# Altium footprint library con-vg.PCBLIB: 112 footprints (part 2 of 7)
Each footprint in its own frame and in the unit in brackets; x right, y up, seen from the top. Pads: shape width x height; smd on the part's side, far side on the other; paste and mask are expansions set on the pad; w line width, h text height; cw(c..) or ccw(c..) is an arc to the next point about the centre after c.
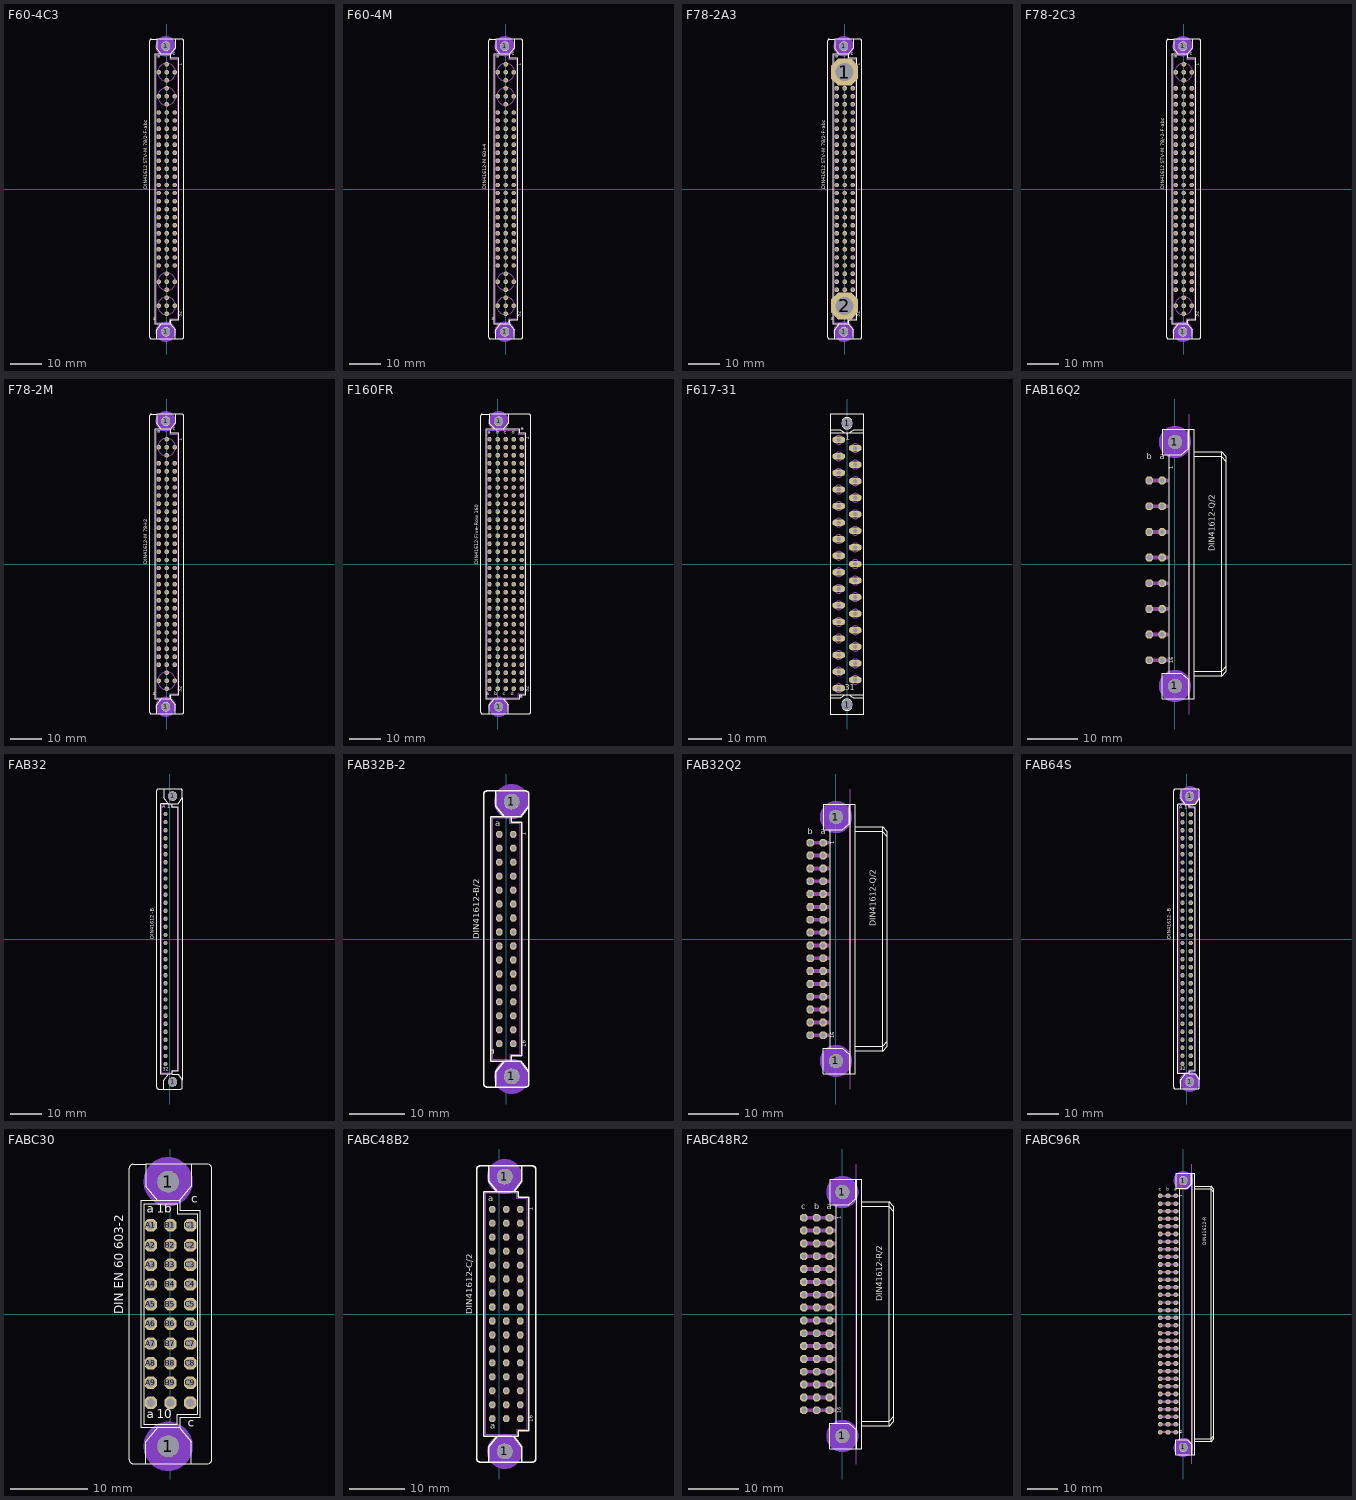
[diagram p1: the footprints below, top view; thin cyan lines are the x and y axes]

## F60-4C3 [mil]
pads (82):
  round 110 hole 110: 1(-12,-1772) 1(-12,1772)
  oct 54x54 hole 36: A2(-100,1450) A5(-100,1150) A7(-100,950) A8(-100,850) A9(-100,750) A10(-100,650) A11(-100,550) A12(-100,450) A13(-100,350) A14(-100,250) A15(-100,150) A16(-100,50) A17(-100,-50) A18(-100,-150) A19(-100,-250) A20(-100,-350) A21(-100,-450) A22(-100,-550) A23(-100,-650) A24(-100,-750) A25(-100,-850) A26(-100,-950) A28(-100,-1150) A31(-100,-1450) B1(0,1550) B2(0,1450) B3(0,1350) B4(0,1250) B5(0,1150) B6(0,1050) B7(0,950) B8(0,850) B9(0,750) B10(0,650) B11(0,550) B12(0,450) B13(0,350) B14(0,250) B15(0,150) B16(0,50) B17(0,-50) B18(0,-150) B19(0,-250) B20(0,-350) B21(0,-450) B22(0,-550) B23(0,-650) B24(0,-750) B25(0,-850) B26(0,-950) B27(0,-1050) B28(0,-1150) B29(0,-1250) B30(0,-1350) B31(0,-1450) B32(0,-1550) C2(100,1450) C5(100,1150) C7(100,950) C8(100,850) C9(100,750) C10(100,650) C11(100,550) C12(100,450) C13(100,350) C14(100,250) C15(100,150) C16(100,50) C17(100,-50) C18(100,-150) C19(100,-250) C20(100,-350) C21(100,-450) C22(100,-550) C23(100,-650) C24(100,-750) C25(100,-850) C26(100,-950) C28(100,-1150) C31(100,-1450)
Bottom Layer keep-out:
  circle w70: c-12,1772 r90
  circle w70: c-12,-1772 r90
Top Overlay:
  circle w10: c-12,-1772 r50
  circle w10: c-12,1772 r50
  lines w10: -125,-1860 -125,-1750 -65,-1675 ; -125,-1860 105,-1860 ; -125,-1860 -190,-1860 cw(c-190,-1840) -210,-1840 -210,1840 cw(c-190,1840) -190,1860 -125,1860 ; -125,1860 105,1860 ; -125,1860 -125,1750 -65,1675 ; -65,-1675 -150,-1675 -150,1675 -65,1675 ; -65,-1675 45,-1675 ; -65,1675 45,1675 ; 45,-1675 50,-1675 50,-1625 150,-1625 150,1625 50,1625 50,1675 45,1675 ; 45,-1675 105,-1750 105,-1860 ; 45,1675 105,1750 105,1860 ; 105,-1860 190,-1860 ccw(c190,-1840) 210,-1840 210,1840 ccw(c190,1840) 190,1860 105,1860
  text "32" at 205,-1590 h77.5
  text "a" at -168.31,-1645 h77.5
  text "c" at 34.57,-1685 h77.5
  text "a" at -120,1610 h77.5
  text "c" at 75,1640 h77.5
  text "1" at 200,1530 h62
  text "DIN41612 STV-M 78/2-F-abc" at -225,0 h77.5
Mechanical 16:
  circle w10: c0,1450 r110
  circle w10: c0,-1450 r110
  circle w10: c0,1150 r110
  circle w10: c0,-1150 r110
  rectangle: 85,525 115,575
  rectangle: 85,725 115,775
  rectangle: -115,525 -85,575
  rectangle: -115,725 -85,775
  rectangle: -115,925 -85,975
  rectangle: 85,925 115,975
  rectangle: 85,425 115,475
  rectangle: 85,625 115,675
  rectangle: -115,425 -85,475
  rectangle: -115,625 -85,675
  rectangle: -115,825 -85,875
  rectangle: 85,825 115,875
  rectangle: 85,-675 115,-625
  rectangle: 85,-475 115,-425
  rectangle: -115,-675 -85,-625
  rectangle: -115,-475 -85,-425
  rectangle: -115,-275 -85,-225
  rectangle: -115,-75 -85,-25
  rectangle: -115,125 -85,175
  rectangle: -115,325 -85,375
  rectangle: 85,-275 115,-225
  rectangle: 85,-75 115,-25
  rectangle: 85,125 115,175
  rectangle: 85,325 115,375
  rectangle: 85,-775 115,-725
  rectangle: 85,-575 115,-525
  rectangle: -115,-775 -85,-725
  rectangle: -115,-575 -85,-525
  rectangle: -115,-375 -85,-325
  rectangle: -115,-175 -85,-125
  rectangle: -115,25 -85,75
  rectangle: -115,225 -85,275
  rectangle: 85,-375 115,-325
  rectangle: 85,-175 115,-125
  rectangle: 85,25 115,75
  rectangle: 85,225 115,275
  rectangle: -115,-875 -85,-825
  rectangle: 85,-875 115,-825
  rectangle: -115,-975 -85,-925
  rectangle: 85,-975 115,-925
  rectangle: -15,525 15,575
  rectangle: -15,725 15,775
  rectangle: -15,925 15,975
  rectangle: -15,425 15,475
  rectangle: -15,625 15,675
  rectangle: -15,825 15,875
  rectangle: -15,-675 15,-625
  rectangle: -15,-475 15,-425
  rectangle: -15,-275 15,-225
  rectangle: -15,-75 15,-25
  rectangle: -15,125 15,175
  rectangle: -15,325 15,375
  rectangle: -15,-775 15,-725
  rectangle: -15,-575 15,-525
  rectangle: -15,-375 15,-325
  rectangle: -15,-175 15,-125
  rectangle: -15,25 15,75
  rectangle: -15,225 15,275
  rectangle: -15,-875 15,-825
  rectangle: -15,-975 15,-925
  lines w2: -135,-1660 -135,1660 35,1660 35,1610 135,1610 135,-1610 35,-1610 35,-1660 -135,-1660
Via Holes:
  circle w70: c-12,1772 r90
  circle w70: c-12,-1772 r90

## F60-4M [mil]
pads (82):
  round 110 hole 110: 1(-12,-1772) 1(-12,1772)
  oct 54x54 hole 36: A2(-100,1450) A5(-100,1150) A7(-100,950) A8(-100,850) A9(-100,750) A10(-100,650) A11(-100,550) A12(-100,450) A13(-100,350) A14(-100,250) A15(-100,150) A16(-100,50) A17(-100,-50) A18(-100,-150) A19(-100,-250) A20(-100,-350) A21(-100,-450) A22(-100,-550) A23(-100,-650) A24(-100,-750) A25(-100,-850) A26(-100,-950) A28(-100,-1150) A31(-100,-1450) B1(0,1550) B2(0,1450) B3(0,1350) B4(0,1250) B5(0,1150) B6(0,1050) B7(0,950) B8(0,850) B9(0,750) B10(0,650) B11(0,550) B12(0,450) B13(0,350) B14(0,250) B15(0,150) B16(0,50) B17(0,-50) B18(0,-150) B19(0,-250) B20(0,-350) B21(0,-450) B22(0,-550) B23(0,-650) B24(0,-750) B25(0,-850) B26(0,-950) B27(0,-1050) B28(0,-1150) B29(0,-1250) B30(0,-1350) B31(0,-1450) B32(0,-1550) C2(100,1450) C5(100,1150) C7(100,950) C8(100,850) C9(100,750) C10(100,650) C11(100,550) C12(100,450) C13(100,350) C14(100,250) C15(100,150) C16(100,50) C17(100,-50) C18(100,-150) C19(100,-250) C20(100,-350) C21(100,-450) C22(100,-550) C23(100,-650) C24(100,-750) C25(100,-850) C26(100,-950) C28(100,-1150) C31(100,-1450)
Bottom Layer keep-out:
  circle w70: c-12,1772 r90
  circle w70: c-12,-1772 r90
Top Overlay:
  circle w10: c-12,-1772 r50
  circle w10: c-12,1772 r50
  lines w10: -125,-1860 -125,-1750 -65,-1675 ; -125,-1860 105,-1860 ; -125,-1860 -190,-1860 cw(c-190,-1840) -210,-1840 -210,1840 cw(c-190,1840) -190,1860 -125,1860 ; -125,1860 105,1860 ; -125,1860 -125,1750 -65,1675 ; -65,-1675 -150,-1675 -150,1675 -65,1675 ; -65,-1675 45,-1675 ; -65,1675 45,1675 ; 45,-1675 50,-1675 50,-1625 150,-1625 150,1625 50,1625 50,1675 45,1675 ; 45,-1675 105,-1750 105,-1860 ; 45,1675 105,1750 105,1860 ; 105,-1860 190,-1860 ccw(c190,-1840) 210,-1840 210,1840 ccw(c190,1840) 190,1860 105,1860
  text "32" at 205,-1590 h77.5
  text "a" at -172.24,-1645 h77.5
  text "c" at 30.63,-1685 h77.5
  text "a" at -120,1610 h77.5
  text "c" at 75,1640 h77.5
  text "1" at 200,1530 h62
  text "DIN41612-M 60+4" at -225,0 h77.5
Mechanical 16:
  circle w10: c0,1450 r110
  circle w10: c0,-1450 r110
  circle w10: c0,1150 r110
  circle w10: c0,-1150 r110
  rectangle: 85,525 115,575
  rectangle: 85,725 115,775
  rectangle: -115,525 -85,575
  rectangle: -115,725 -85,775
  rectangle: -115,925 -85,975
  rectangle: 85,925 115,975
  rectangle: 85,425 115,475
  rectangle: 85,625 115,675
  rectangle: -115,425 -85,475
  rectangle: -115,625 -85,675
  rectangle: -115,825 -85,875
  rectangle: 85,825 115,875
  rectangle: 85,-675 115,-625
  rectangle: 85,-475 115,-425
  rectangle: -115,-675 -85,-625
  rectangle: -115,-475 -85,-425
  rectangle: -115,-275 -85,-225
  rectangle: -115,-75 -85,-25
  rectangle: -115,125 -85,175
  rectangle: -115,325 -85,375
  rectangle: 85,-275 115,-225
  rectangle: 85,-75 115,-25
  rectangle: 85,125 115,175
  rectangle: 85,325 115,375
  rectangle: 85,-775 115,-725
  rectangle: 85,-575 115,-525
  rectangle: -115,-775 -85,-725
  rectangle: -115,-575 -85,-525
  rectangle: -115,-375 -85,-325
  rectangle: -115,-175 -85,-125
  rectangle: -115,25 -85,75
  rectangle: -115,225 -85,275
  rectangle: 85,-375 115,-325
  rectangle: 85,-175 115,-125
  rectangle: 85,25 115,75
  rectangle: 85,225 115,275
  rectangle: -115,-875 -85,-825
  rectangle: 85,-875 115,-825
  rectangle: -115,-975 -85,-925
  rectangle: 85,-975 115,-925
  rectangle: -15,525 15,575
  rectangle: -15,725 15,775
  rectangle: -15,925 15,975
  rectangle: -15,425 15,475
  rectangle: -15,625 15,675
  rectangle: -15,825 15,875
  rectangle: -15,-675 15,-625
  rectangle: -15,-475 15,-425
  rectangle: -15,-275 15,-225
  rectangle: -15,-75 15,-25
  rectangle: -15,125 15,175
  rectangle: -15,325 15,375
  rectangle: -15,-775 15,-725
  rectangle: -15,-575 15,-525
  rectangle: -15,-375 15,-325
  rectangle: -15,-175 15,-125
  rectangle: -15,25 15,75
  rectangle: -15,225 15,275
  rectangle: -15,-875 15,-825
  rectangle: -15,-975 15,-925
  lines w2: -135,-1660 -135,1660 35,1660 35,1610 135,1610 135,-1610 35,-1610 35,-1660 -135,-1660
Via Holes:
  circle w70: c-12,1772 r90
  circle w70: c-12,-1772 r90

## F78-2A3 [mil]
pads (82):
  round 110 hole 110: 1(-12,-1772) 1(-12,1772)
  oct 336.62x336.62 hole 224.41: 1(0,1450) 2(0,-1450)
  oct 54x54 hole 36: A4(-100,1250) A5(-100,1150) A6(-100,1050) A7(-100,950) A8(-100,850) A9(-100,750) A10(-100,650) A11(-100,550) A12(-100,450) A13(-100,350) A14(-100,250) A15(-100,150) A16(-100,50) A17(-100,-50) A18(-100,-150) A19(-100,-250) A20(-100,-350) A21(-100,-450) A22(-100,-550) A23(-100,-650) A24(-100,-750) A25(-100,-850) A26(-100,-950) A27(-100,-1050) A28(-100,-1150) A29(-100,-1250) B4(0,1250) B5(0,1150) B6(0,1050) B7(0,950) B8(0,850) B9(0,750) B10(0,650) B11(0,550) B12(0,450) B13(0,350) B14(0,250) B15(0,150) B16(0,50) B17(0,-50) B18(0,-150) B19(0,-250) B20(0,-350) B21(0,-450) B22(0,-550) B23(0,-650) B24(0,-750) B25(0,-850) B26(0,-950) B27(0,-1050) B28(0,-1150) B29(0,-1250) C4(100,1250) C5(100,1150) C6(100,1050) C7(100,950) C8(100,850) C9(100,750) C10(100,650) C11(100,550) C12(100,450) C13(100,350) C14(100,250) C15(100,150) C16(100,50) C17(100,-50) C18(100,-150) C19(100,-250) C20(100,-350) C21(100,-450) C22(100,-550) C23(100,-650) C24(100,-750) C25(100,-850) C26(100,-950) C27(100,-1050) C28(100,-1150) C29(100,-1250)
Bottom Layer keep-out:
  circle w70: c-12,1772 r90
  circle w70: c-12,-1772 r90
Top Overlay:
  circle w10: c-12,-1772 r50
  circle w10: c-12,1772 r50
  lines w10: -125,-1860 -125,-1750 -65,-1675 ; -125,-1860 105,-1860 ; -125,-1860 -190,-1860 cw(c-190,-1840) -210,-1840 -210,1840 cw(c-190,1840) -190,1860 -125,1860 ; -125,1860 105,1860 ; -125,1860 -125,1750 -65,1675 ; -65,-1675 -150,-1675 -150,1675 -65,1675 ; -65,-1675 45,-1675 ; -65,1675 45,1675 ; 45,-1675 50,-1675 50,-1625 150,-1625 150,1625 50,1625 50,1675 45,1675 ; 45,-1675 105,-1750 105,-1860 ; 45,1675 105,1750 105,1860 ; 105,-1860 190,-1860 ccw(c190,-1840) 210,-1840 210,1840 ccw(c190,1840) 190,1860 105,1860
  text "32" at 205,-1590 h77.5
  text "a" at -172.24,-1645 h77.5
  text "c" at 30.63,-1685 h77.5
  text "a" at -120,1610 h77.5
  text "c" at 75,1640 h77.5
  text "1" at 200,1530 h62
  text "DIN41612 STV-M 78/2-F-abc" at -225,0 h77.5
Mechanical 16:
  circle w10: c0,1450 r110
  circle w10: c0,-1450 r110
  rectangle: 85,525 115,575
  rectangle: 85,725 115,775
  rectangle: -115,525 -85,575
  rectangle: -115,725 -85,775
  rectangle: -115,925 -85,975
  rectangle: -115,1125 -85,1175
  rectangle: 85,925 115,975
  rectangle: 85,1125 115,1175
  rectangle: 85,425 115,475
  rectangle: 85,625 115,675
  rectangle: -115,425 -85,475
  rectangle: -115,625 -85,675
  rectangle: -115,825 -85,875
  rectangle: -115,1025 -85,1075
  rectangle: -115,1225 -85,1275
  rectangle: 85,825 115,875
  rectangle: 85,1025 115,1075
  rectangle: 85,1225 115,1275
  rectangle: 85,-675 115,-625
  rectangle: 85,-475 115,-425
  rectangle: -115,-675 -85,-625
  rectangle: -115,-475 -85,-425
  rectangle: -115,-275 -85,-225
  rectangle: -115,-75 -85,-25
  rectangle: -115,125 -85,175
  rectangle: -115,325 -85,375
  rectangle: 85,-275 115,-225
  rectangle: 85,-75 115,-25
  rectangle: 85,125 115,175
  rectangle: 85,325 115,375
  rectangle: 85,-775 115,-725
  rectangle: 85,-575 115,-525
  rectangle: -115,-775 -85,-725
  rectangle: -115,-575 -85,-525
  rectangle: -115,-375 -85,-325
  rectangle: -115,-175 -85,-125
  rectangle: -115,25 -85,75
  rectangle: -115,225 -85,275
  rectangle: 85,-375 115,-325
  rectangle: 85,-175 115,-125
  rectangle: 85,25 115,75
  rectangle: 85,225 115,275
  rectangle: -115,-1275 -85,-1225
  rectangle: -115,-1075 -85,-1025
  rectangle: -115,-875 -85,-825
  rectangle: 85,-1275 115,-1225
  rectangle: 85,-1075 115,-1025
  rectangle: 85,-875 115,-825
  rectangle: -115,-1175 -85,-1125
  rectangle: -115,-975 -85,-925
  rectangle: 85,-1175 115,-1125
  rectangle: 85,-975 115,-925
  rectangle: -15,525 15,575
  rectangle: -15,725 15,775
  rectangle: -15,925 15,975
  rectangle: -15,1125 15,1175
  rectangle: -15,425 15,475
  rectangle: -15,625 15,675
  rectangle: -15,825 15,875
  rectangle: -15,1025 15,1075
  rectangle: -15,1225 15,1275
  rectangle: -15,-675 15,-625
  rectangle: -15,-475 15,-425
  rectangle: -15,-275 15,-225
  rectangle: -15,-75 15,-25
  rectangle: -15,125 15,175
  rectangle: -15,325 15,375
  rectangle: -15,-775 15,-725
  rectangle: -15,-575 15,-525
  rectangle: -15,-375 15,-325
  rectangle: -15,-175 15,-125
  rectangle: -15,25 15,75
  rectangle: -15,225 15,275
  rectangle: -15,-1275 15,-1225
  rectangle: -15,-1075 15,-1025
  rectangle: -15,-875 15,-825
  rectangle: -15,-1175 15,-1125
  rectangle: -15,-975 15,-925
  lines w2: -135,-1660 -135,1660 35,1660 35,1610 135,1610 135,-1610 35,-1610 35,-1660 -135,-1660
Via Holes:
  circle w70: c-12,1772 r90
  circle w70: c-12,-1772 r90

## F78-2C3 [mil]
pads (90):
  round 110 hole 110: 1(-12,-1772) 1(-12,1772)
  oct 54x54 hole 36: A2(-100,1450) A4(-100,1250) A5(-100,1150) A6(-100,1050) A7(-100,950) A8(-100,850) A9(-100,750) A10(-100,650) A11(-100,550) A12(-100,450) A13(-100,350) A14(-100,250) A15(-100,150) A16(-100,50) A17(-100,-50) A18(-100,-150) A19(-100,-250) A20(-100,-350) A21(-100,-450) A22(-100,-550) A23(-100,-650) A24(-100,-750) A25(-100,-850) A26(-100,-950) A27(-100,-1050) A28(-100,-1150) A29(-100,-1250) A31(-100,-1450) B1(0,1550) B2(0,1450) B3(0,1350) B4(0,1250) B5(0,1150) B6(0,1050) B7(0,950) B8(0,850) B9(0,750) B10(0,650) B11(0,550) B12(0,450) B13(0,350) B14(0,250) B15(0,150) B16(0,50) B17(0,-50) B18(0,-150) B19(0,-250) B20(0,-350) B21(0,-450) B22(0,-550) B23(0,-650) B24(0,-750) B25(0,-850) B26(0,-950) B27(0,-1050) B28(0,-1150) B29(0,-1250) B30(0,-1350) B31(0,-1450) B32(0,-1550) C2(100,1450) C4(100,1250) C5(100,1150) C6(100,1050) C7(100,950) C8(100,850) C9(100,750) C10(100,650) C11(100,550) C12(100,450) C13(100,350) C14(100,250) C15(100,150) C16(100,50) C17(100,-50) C18(100,-150) C19(100,-250) C20(100,-350) C21(100,-450) C22(100,-550) C23(100,-650) C24(100,-750) C25(100,-850) C26(100,-950) C27(100,-1050) C28(100,-1150) C29(100,-1250) C31(100,-1450)
Bottom Layer keep-out:
  circle w70: c-12,1772 r90
  circle w70: c-12,-1772 r90
Top Overlay:
  circle w10: c-12,-1772 r50
  circle w10: c-12,1772 r50
  lines w10: -125,-1860 -125,-1750 -65,-1675 ; -125,-1860 105,-1860 ; -125,-1860 -190,-1860 cw(c-190,-1840) -210,-1840 -210,1840 cw(c-190,1840) -190,1860 -125,1860 ; -125,1860 105,1860 ; -125,1860 -125,1750 -65,1675 ; -65,-1675 -150,-1675 -150,1675 -65,1675 ; -65,-1675 45,-1675 ; -65,1675 45,1675 ; 45,-1675 50,-1675 50,-1625 150,-1625 150,1625 50,1625 50,1675 45,1675 ; 45,-1675 105,-1750 105,-1860 ; 45,1675 105,1750 105,1860 ; 105,-1860 190,-1860 ccw(c190,-1840) 210,-1840 210,1840 ccw(c190,1840) 190,1860 105,1860
  text "32" at 205,-1590 h77.5
  text "a" at -172.24,-1645 h77.5
  text "c" at 34.57,-1685 h77.5
  text "a" at -120,1610 h77.5
  text "c" at 75,1640 h77.5
  text "1" at 200,1530 h62
  text "DIN41612 STV-M 78/-2-F-abc" at -225,0 h77.5
Mechanical 16:
  circle w10: c0,1450 r110
  circle w10: c0,-1450 r110
  rectangle: 85,525 115,575
  rectangle: 85,725 115,775
  rectangle: -115,525 -85,575
  rectangle: -115,725 -85,775
  rectangle: -115,925 -85,975
  rectangle: -115,1125 -85,1175
  rectangle: 85,925 115,975
  rectangle: 85,1125 115,1175
  rectangle: 85,425 115,475
  rectangle: 85,625 115,675
  rectangle: -115,425 -85,475
  rectangle: -115,625 -85,675
  rectangle: -115,825 -85,875
  rectangle: -115,1025 -85,1075
  rectangle: -115,1225 -85,1275
  rectangle: 85,825 115,875
  rectangle: 85,1025 115,1075
  rectangle: 85,1225 115,1275
  rectangle: 85,-675 115,-625
  rectangle: 85,-475 115,-425
  rectangle: -115,-675 -85,-625
  rectangle: -115,-475 -85,-425
  rectangle: -115,-275 -85,-225
  rectangle: -115,-75 -85,-25
  rectangle: -115,125 -85,175
  rectangle: -115,325 -85,375
  rectangle: 85,-275 115,-225
  rectangle: 85,-75 115,-25
  rectangle: 85,125 115,175
  rectangle: 85,325 115,375
  rectangle: 85,-775 115,-725
  rectangle: 85,-575 115,-525
  rectangle: -115,-775 -85,-725
  rectangle: -115,-575 -85,-525
  rectangle: -115,-375 -85,-325
  rectangle: -115,-175 -85,-125
  rectangle: -115,25 -85,75
  rectangle: -115,225 -85,275
  rectangle: 85,-375 115,-325
  rectangle: 85,-175 115,-125
  rectangle: 85,25 115,75
  rectangle: 85,225 115,275
  rectangle: -115,-1275 -85,-1225
  rectangle: -115,-1075 -85,-1025
  rectangle: -115,-875 -85,-825
  rectangle: 85,-1275 115,-1225
  rectangle: 85,-1075 115,-1025
  rectangle: 85,-875 115,-825
  rectangle: -115,-1175 -85,-1125
  rectangle: -115,-975 -85,-925
  rectangle: 85,-1175 115,-1125
  rectangle: 85,-975 115,-925
  rectangle: -15,525 15,575
  rectangle: -15,725 15,775
  rectangle: -15,925 15,975
  rectangle: -15,1125 15,1175
  rectangle: -15,425 15,475
  rectangle: -15,625 15,675
  rectangle: -15,825 15,875
  rectangle: -15,1025 15,1075
  rectangle: -15,1225 15,1275
  rectangle: -15,-675 15,-625
  rectangle: -15,-475 15,-425
  rectangle: -15,-275 15,-225
  rectangle: -15,-75 15,-25
  rectangle: -15,125 15,175
  rectangle: -15,325 15,375
  rectangle: -15,-775 15,-725
  rectangle: -15,-575 15,-525
  rectangle: -15,-375 15,-325
  rectangle: -15,-175 15,-125
  rectangle: -15,25 15,75
  rectangle: -15,225 15,275
  rectangle: -15,-1275 15,-1225
  rectangle: -15,-1075 15,-1025
  rectangle: -15,-875 15,-825
  rectangle: -15,-1175 15,-1125
  rectangle: -15,-975 15,-925
  lines w2: -135,-1660 -135,1660 35,1660 35,1610 135,1610 135,-1610 35,-1610 35,-1660 -135,-1660
Via Holes:
  circle w70: c-12,1772 r90
  circle w70: c-12,-1772 r90

## F78-2M [mil]
pads (90):
  round 110 hole 110: 1(-12,-1772) 1(-12,1772)
  oct 54x54 hole 36: A2(-100,1450) A4(-100,1250) A5(-100,1150) A6(-100,1050) A7(-100,950) A8(-100,850) A9(-100,750) A10(-100,650) A11(-100,550) A12(-100,450) A13(-100,350) A14(-100,250) A15(-100,150) A16(-100,50) A17(-100,-50) A18(-100,-150) A19(-100,-250) A20(-100,-350) A21(-100,-450) A22(-100,-550) A23(-100,-650) A24(-100,-750) A25(-100,-850) A26(-100,-950) A27(-100,-1050) A28(-100,-1150) A29(-100,-1250) A31(-100,-1450) B1(0,1550) B2(0,1450) B3(0,1350) B4(0,1250) B5(0,1150) B6(0,1050) B7(0,950) B8(0,850) B9(0,750) B10(0,650) B11(0,550) B12(0,450) B13(0,350) B14(0,250) B15(0,150) B16(0,50) B17(0,-50) B18(0,-150) B19(0,-250) B20(0,-350) B21(0,-450) B22(0,-550) B23(0,-650) B24(0,-750) B25(0,-850) B26(0,-950) B27(0,-1050) B28(0,-1150) B29(0,-1250) B30(0,-1350) B31(0,-1450) B32(0,-1550) C2(100,1450) C4(100,1250) C5(100,1150) C6(100,1050) C7(100,950) C8(100,850) C9(100,750) C10(100,650) C11(100,550) C12(100,450) C13(100,350) C14(100,250) C15(100,150) C16(100,50) C17(100,-50) C18(100,-150) C19(100,-250) C20(100,-350) C21(100,-450) C22(100,-550) C23(100,-650) C24(100,-750) C25(100,-850) C26(100,-950) C27(100,-1050) C28(100,-1150) C29(100,-1250) C31(100,-1450)
Bottom Layer keep-out:
  circle w70: c-12,1772 r90
  circle w70: c-12,-1772 r90
Top Overlay:
  circle w10: c-12,-1772 r50
  circle w10: c-12,1772 r50
  lines w10: -125,-1860 -125,-1750 -65,-1675 ; -125,-1860 105,-1860 ; -125,-1860 -190,-1860 cw(c-190,-1840) -210,-1840 -210,1840 cw(c-190,1840) -190,1860 -125,1860 ; -125,1860 105,1860 ; -125,1860 -125,1750 -65,1675 ; -65,-1675 -150,-1675 -150,1675 -65,1675 ; -65,-1675 45,-1675 ; -65,1675 45,1675 ; 45,-1675 50,-1675 50,-1625 150,-1625 150,1625 50,1625 50,1675 45,1675 ; 45,-1675 105,-1750 105,-1860 ; 45,1675 105,1750 105,1860 ; 105,-1860 190,-1860 ccw(c190,-1840) 210,-1840 210,1840 ccw(c190,1840) 190,1860 105,1860
  text "32" at 205,-1590 h77.5
  text "a" at -172.24,-1645 h77.5
  text "c" at 34.57,-1681.06 h77.5
  text "a" at -120,1610 h77.5
  text "c" at 75,1640 h77.5
  text "1" at 200,1530 h62
  text "DIN41612-M 78+2" at -225,0 h77.5
Mechanical 16:
  circle w10: c0,1450 r110
  circle w10: c0,-1450 r110
  rectangle: 85,525 115,575
  rectangle: 85,725 115,775
  rectangle: -115,525 -85,575
  rectangle: -115,725 -85,775
  rectangle: -115,925 -85,975
  rectangle: -115,1125 -85,1175
  rectangle: 85,925 115,975
  rectangle: 85,1125 115,1175
  rectangle: 85,425 115,475
  rectangle: 85,625 115,675
  rectangle: -115,425 -85,475
  rectangle: -115,625 -85,675
  rectangle: -115,825 -85,875
  rectangle: -115,1025 -85,1075
  rectangle: -115,1225 -85,1275
  rectangle: 85,825 115,875
  rectangle: 85,1025 115,1075
  rectangle: 85,1225 115,1275
  rectangle: 85,-675 115,-625
  rectangle: 85,-475 115,-425
  rectangle: -115,-675 -85,-625
  rectangle: -115,-475 -85,-425
  rectangle: -115,-275 -85,-225
  rectangle: -115,-75 -85,-25
  rectangle: -115,125 -85,175
  rectangle: -115,325 -85,375
  rectangle: 85,-275 115,-225
  rectangle: 85,-75 115,-25
  rectangle: 85,125 115,175
  rectangle: 85,325 115,375
  rectangle: 85,-775 115,-725
  rectangle: 85,-575 115,-525
  rectangle: -115,-775 -85,-725
  rectangle: -115,-575 -85,-525
  rectangle: -115,-375 -85,-325
  rectangle: -115,-175 -85,-125
  rectangle: -115,25 -85,75
  rectangle: -115,225 -85,275
  rectangle: 85,-375 115,-325
  rectangle: 85,-175 115,-125
  rectangle: 85,25 115,75
  rectangle: 85,225 115,275
  rectangle: -115,-1275 -85,-1225
  rectangle: -115,-1075 -85,-1025
  rectangle: -115,-875 -85,-825
  rectangle: 85,-1275 115,-1225
  rectangle: 85,-1075 115,-1025
  rectangle: 85,-875 115,-825
  rectangle: -115,-1175 -85,-1125
  rectangle: -115,-975 -85,-925
  rectangle: 85,-1175 115,-1125
  rectangle: 85,-975 115,-925
  rectangle: -15,525 15,575
  rectangle: -15,725 15,775
  rectangle: -15,925 15,975
  rectangle: -15,1125 15,1175
  rectangle: -15,425 15,475
  rectangle: -15,625 15,675
  rectangle: -15,825 15,875
  rectangle: -15,1025 15,1075
  rectangle: -15,1225 15,1275
  rectangle: -15,-675 15,-625
  rectangle: -15,-475 15,-425
  rectangle: -15,-275 15,-225
  rectangle: -15,-75 15,-25
  rectangle: -15,125 15,175
  rectangle: -15,325 15,375
  rectangle: -15,-775 15,-725
  rectangle: -15,-575 15,-525
  rectangle: -15,-375 15,-325
  rectangle: -15,-175 15,-125
  rectangle: -15,25 15,75
  rectangle: -15,225 15,275
  rectangle: -15,-1275 15,-1225
  rectangle: -15,-1075 15,-1025
  rectangle: -15,-875 15,-825
  rectangle: -15,-1175 15,-1125
  rectangle: -15,-975 15,-925
  lines w2: -135,-1660 -135,1660 35,1660 35,1610 135,1610 135,-1610 35,-1610 35,-1660 -135,-1660
Via Holes:
  circle w70: c-12,1772 r90
  circle w70: c-12,-1772 r90

## F160FR [mil]
pads (162):
  round 110 hole 110: 1(12,-1772) 1(12,1772)
  oct 54x54 hole 36: A1(-100,1550) A2(-100,1450) A3(-100,1350) A4(-100,1250) A5(-100,1150) A6(-100,1050) A7(-100,950) A8(-100,850) A9(-100,750) A10(-100,650) A11(-100,550) A12(-100,450) A13(-100,350) A14(-100,250) A15(-100,150) A16(-100,50) A17(-100,-50) A18(-100,-150) A19(-100,-250) A20(-100,-350) A21(-100,-450) A22(-100,-550) A23(-100,-650) A24(-100,-750) A25(-100,-850) A26(-100,-950) A27(-100,-1050) A28(-100,-1150) A29(-100,-1250) A30(-100,-1350) A31(-100,-1450) A32(-100,-1550) B1(0,1550) B2(0,1450) B3(0,1350) B4(0,1250) B5(0,1150) B6(0,1050) B7(0,950) B8(0,850) B9(0,750) B10(0,650) B11(0,550) B12(0,450) B13(0,350) B14(0,250) B15(0,150) B16(0,50) B17(0,-50) B18(0,-150) B19(0,-250) B20(0,-350) B21(0,-450) B22(0,-550) B23(0,-650) B24(0,-750) B25(0,-850) B26(0,-950) B27(0,-1050) B28(0,-1150) B29(0,-1250) B30(0,-1350) B31(0,-1450) B32(0,-1550) C1(100,1550) C2(100,1450) C3(100,1350) C4(100,1250) C5(100,1150) C6(100,1050) C7(100,950) C8(100,850) C9(100,750) C10(100,650) C11(100,550) C12(100,450) C13(100,350) C14(100,250) C15(100,150) C16(100,50) C17(100,-50) C18(100,-150) C19(100,-250) C20(100,-350) C21(100,-450) C22(100,-550) C23(100,-650) C24(100,-750) C25(100,-850) C26(100,-950) C27(100,-1050) C28(100,-1150) C29(100,-1250) C30(100,-1350) C31(100,-1450) C32(100,-1550) D1(200,1550) D2(200,1450) D3(200,1350) D4(200,1250) D5(200,1150) D6(200,1050) D7(200,950) D8(200,850) D9(200,750) D10(200,650) D11(200,550) D12(200,450) D13(200,350) D14(200,250) D15(200,150) D16(200,50) D17(200,-50) D18(200,-150) D19(200,-250) D20(200,-350) D21(200,-450) D22(200,-550) D23(200,-650) D24(200,-750) D25(200,-850) D26(200,-950) D27(200,-1050) D28(200,-1150) D29(200,-1250) D30(200,-1350) D31(200,-1450) D32(200,-1550) E1(300,1550) E2(300,1450) E3(300,1350) E4(300,1250) E5(300,1150) E6(300,1050) E7(300,950) E8(300,850) E9(300,750) E10(300,650) E11(300,550) E12(300,450) E13(300,350) E14(300,250) E15(300,150) E16(300,50) E17(300,-50) E18(300,-150) E19(300,-250) E20(300,-350) E21(300,-450) E22(300,-550) E23(300,-650) E24(300,-750) E25(300,-850) E26(300,-950) E27(300,-1050) E28(300,-1150) E29(300,-1250) E30(300,-1350) E31(300,-1450) E32(300,-1550)
Bottom Layer keep-out:
  circle w70: c12,1772 r90
  circle w70: c12,-1772 r90
Top Overlay:
  circle w10: c12,-1772 r50
  circle w10: c12,1772 r50
  lines w10: -101,-1860 -101,-1750 -41,-1675 ; -101,-1860 129,-1860 ; -101,-1860 -190,-1860 cw(c-190,-1840) -210,-1840 -210,1840 cw(c-190,1840) -190,1860 -101,1860 ; -101,1860 129,1860 ; -101,1860 -101,1750 -29,1675 ; -41,-1675 -150,-1675 -150,1675 -29,1675 ; -41,-1675 69,-1675 ; -29,1675 69,1675 ; 69,-1675 274,-1675 274,-1625 350,-1625 350,1625 274,1625 274,1675 69,1675 ; 69,-1675 129,-1750 129,-1860 ; 69,1675 129,1750 129,1860 ; 129,-1860 390,-1860 ccw(c390,-1840) 410,-1840 410,1840 ccw(c390,1840) 390,1860 129,1860
  text "DIN41612-Five-Row 160" at -225,0 h77.5
  text "a" at -120,1600 h77.5
  text "b" at -20,1600 h77.5
  text "c" at 75,1600 h77.5
  text "a" at -139.37,-1645 h77.5
  text "c" at 63.5,-1645 h77.5
  text "32" at 405,-1590 h77.5
  text "1" at 405,1540 h77.5
  text "d" at 175,1600 h77.5
  text "e" at 287,1640 h77.5
  text "b" at -39.37,-1645 h77.5
  text "d" at 160.63,-1645 h77.5
  text "e" at 276.76,-1685 h77.5
Mechanical 16:
  drawing of 168 lines, arcs and shapes, not listed
Via Holes:
  circle w70: c12,1772 r90
  circle w70: c12,-1772 r90

## F617-31 [mm]
pads (33):
  oval 3.9x1.95 hole 1.3: 1(-2.5,37.5) 2(2.5,35) 3(-2.5,32.5) 4(2.5,30) 5(-2.5,27.5) 6(2.5,25) 7(-2.5,22.5) 8(2.5,20) 9(-2.5,17.5) 10(2.5,15) 11(-2.5,12.5) 12(2.5,10) 13(-2.5,7.5) 14(2.5,5) 15(-2.5,2.5) 16(2.5,0) 17(-2.5,-2.5) 18(2.5,-5) 19(-2.5,-7.5) 20(2.5,-10) 21(-2.5,-12.5) 22(2.5,-15) 23(-2.5,-17.5) 24(2.5,-20) 25(-2.5,-22.5) 26(2.5,-25) 27(-2.5,-27.5) 28(2.5,-30) 29(-2.5,-32.5) 30(2.5,-35) 31(-2.5,-37.5)
  round 3.2 hole 3.2: 1(0,-42.5) 1(0,42.5)
Top Overlay:
  lines w0.203: -1.3,-43.6 -1.3,-41.4 cw(c0,-42.5) 1.3,-41.4 1.3,-43.6 cw(c0.004,-42.5) -1.2,-43.7 ; -1.3,41.4 -1.3,43.6 cw(c0,42.5) 1.3,43.6 1.3,41.4 cw(c0.004,42.5) -1.2,41.3 ; -5,-40.6 -5,-39.6 ; -5,-40.6 -5,-45.3 5,-45.3 5,-40.6 ; -5,-40.6 -2,-40.6 cw(c0,-42.1) 2,-40.6 5,-40.6 ; -5,-39.6 -5,39.6 ; -5,-39.6 5,-39.6 ; -5,39.6 -5,40.6 ; -5,39.6 5,39.6 ; -5,40.6 -5,45.3 5,45.3 5,40.6 ; -5,40.6 -2,40.6 ccw(c0,42.1) 2,40.6 5,40.6 ; 5,-40.6 5,-39.6 ; 5,-39.6 5,39.6 ; 5,39.6 5,40.6
  text "1" at -0.6,36.85 h2.99
  text "31" at -0.65,-38.715 h2.99
Mechanical 16:
  circle w0.203: c-2.5,37.5 r1.3
  circle w0.203: c2.5,35 r1.3
  circle w0.203: c-2.5,32.5 r1.3
  circle w0.203: c2.5,30 r1.3
  circle w0.203: c-2.5,27.5 r1.3
  circle w0.203: c2.5,25 r1.3
  circle w0.203: c-2.5,22.5 r1.3
  circle w0.203: c2.5,20 r1.3
  circle w0.203: c-2.5,17.5 r1.3
  circle w0.203: c2.5,15 r1.3
  circle w0.203: c-2.5,12.5 r1.3
  circle w0.203: c2.5,10 r1.3
  circle w0.203: c-2.5,7.5 r1.3
  circle w0.203: c2.5,5 r1.3
  circle w0.203: c-2.5,2.5 r1.3
  circle w0.203: c2.5,0 r1.3
  circle w0.203: c-2.5,-2.5 r1.3
  circle w0.203: c2.5,-5 r1.3
  circle w0.203: c-2.5,-7.5 r1.3
  circle w0.203: c2.5,-10 r1.3
  circle w0.203: c-2.5,-12.5 r1.3
  circle w0.203: c2.5,-15 r1.3
  circle w0.203: c-2.5,-17.5 r1.3
  circle w0.203: c2.5,-20 r1.3
  circle w0.203: c-2.5,-22.5 r1.3
  circle w0.203: c2.5,-25 r1.3
  circle w0.203: c-2.5,-27.5 r1.3
  circle w0.203: c2.5,-30 r1.3
  circle w0.203: c-2.5,-32.5 r1.3
  circle w0.203: c2.5,-35 r1.3
  circle w0.203: c-2.5,-37.5 r1.3

## FAB16Q2 [mil]
pads (18):
  round 110 hole 110: 1(0,-950.25) 1(0,950.25)
  oct 60x60 hole 40: A2(-100,650) A4(-100,450) A6(-100,250) A8(-100,50) A10(-100,-150) A12(-100,-350) A14(-100,-550) A16(-100,-750) B2(-200,650) B4(-200,450) B6(-200,250) B8(-200,50) B10(-200,-150) B12(-200,-350) B14(-200,-550) B16(-200,-750)
Bottom Layer keep-out:
  circle w70: c0,-950.25 r90
  circle w70: c0,950.25 r90
Top Overlay:
  circle w6: c0,-950.25 r50
  circle w6: c0,950.25 r50
  lines w6: 150,-875 365,-875 ; 150,875 365,875 ; 155,-835 365,-835 ; 155,835 365,835 ; 365,-875 400,-835 400,-795 ; 365,-875 365,-835 ; 365,-835 365,835 ; 365,-835 400,-795 ; 365,835 400,795 ; 365,835 365,875 ; 365,875 400,835 400,795 ; 400,-795 400,795
  lines w8: -100,1050 -100,1048.43 ; 105,1045 105,900 50,850 -50,850 ; 108.66,-1049.88 108.66,1044.88 ; 149.61,-1049.88 149.61,1044.88 ; 150,-1050 105,-1050 ; 150,1048.43 -100,1048.43 ; -100,1048.43 -100,850 -50,850 ; -50,-850 -100,-850 -100,-1050 105,-1050 ; -50,-850 50,-850 105,-900 105,-1050 ; -50,-850 -50,850
  text "1" at 0,740 h49.6
  text "16" at 0,-775 h49.6
  text "a" at -120,800 h77.5
  text "b" at -220,800 h77.5
  text "DIN41612-Q/2" at 325,100 h77.5
Mechanical 1:
  lines w0: 110,-1169 110,1169
Mechanical 16:
  rectangle: -210,635 -50,665
  rectangle: -210,435 -50,465
  rectangle: -210,235 -50,265
  rectangle: -210,35 -50,65
  rectangle: -210,-165 -50,-135
  rectangle: -210,-365 -50,-335
  rectangle: -210,-565 -50,-535
  rectangle: -210,-765 -50,-735
Via Holes:
  circle w70: c0,-950.25 r90
  circle w70: c0,950.25 r90

## FAB32 [mil]
pads (34):
  round 110 hole 110: 1(38,-1772) 1(38,1772)
  oct 54x54 hole 36: A1(-50,1550) A2(-50,1450) A3(-50,1350) A4(-50,1250) A5(-50,1150) A6(-50,1050) A7(-50,950) A8(-50,850) A9(-50,750) A10(-50,650) A11(-50,550) A12(-50,450) A13(-50,350) A14(-50,250) A15(-50,150) A16(-50,50) A17(-50,-50) A18(-50,-150) A19(-50,-250) A20(-50,-350) A21(-50,-450) A22(-50,-550) A23(-50,-650) A24(-50,-750) A25(-50,-850) A26(-50,-950) A27(-50,-1050) A28(-50,-1150) A29(-50,-1250) A30(-50,-1350) A31(-50,-1450) A32(-50,-1550)
Top Overlay:
  circle w10: c38,-1772 r50
  circle w10: c38,1772 r50
  lines w10: 160,1840 160,1750 ; 160.87,1840.12 ccw(c137.99,1836.99) 140,1860 -75,1860 ; -75,-1860 -75,-1750 -15,-1675 ; -75,-1860 140,-1860 ccw(c140,-1840) 160,-1840 160,-1750 ; -75,-1860 -140,-1860 cw(c-140,-1840) -160,-1840 -160,1840 cw(c-140,1840) -140,1860 -75,1860 ; -75,1860 -75,1750 -15,1675 ; -15,-1675 35,-1675 ; -15,-1675 -110,-1675 -110,1675 -15,1675 ; -15,1675 35,1675 ; 35,-1675 35,-1635 110,-1635 110,1635 35,1635 35,1675 ; 35,-1675 105,-1675 160,-1750 ; 35,1675 105,1675 160,1750 ; 160,-1750 160,1750
  text "32" at -85,-1650 h77.5
  text "A" at -90,1600 h77.5
  text "1" at -30,1600 h77.5
  text "DIN41612 -B" at -175,0 h77.5
Mechanical 16:
  rectangle: -65,-1575 -35,-1525
  rectangle: -65,-1475 -35,-1425
  rectangle: -65,-1375 -35,-1325
  rectangle: -65,-1275 -35,-1225
  rectangle: -65,-1175 -35,-1125
  rectangle: -65,-1075 -35,-1025
  rectangle: -65,-975 -35,-925
  rectangle: -65,-875 -35,-825
  rectangle: -65,-775 -35,-725
  rectangle: -65,-675 -35,-625
  rectangle: -65,-575 -35,-525
  rectangle: -65,-475 -35,-425
  rectangle: -65,-375 -35,-325
  rectangle: -65,-275 -35,-225
  rectangle: -65,-175 -35,-125
  rectangle: -65,-75 -35,-25
  rectangle: -65,25 -35,75
  rectangle: -65,125 -35,175
  rectangle: -65,225 -35,275
  rectangle: -65,325 -35,375
  rectangle: -65,425 -35,475
  rectangle: -65,525 -35,575
  rectangle: -65,625 -35,675
  rectangle: -65,725 -35,775
  rectangle: -65,825 -35,875
  rectangle: -65,925 -35,975
  rectangle: -65,1025 -35,1075
  rectangle: -65,1125 -35,1175
  rectangle: -65,1225 -35,1275
  rectangle: -65,1325 -35,1375
  rectangle: -65,1425 -35,1475
  rectangle: -65,1525 -35,1575
  lines w10: -100,-1665 -100,1665 25,1665 25,1625 100,1625 100,-1625 25,-1625 25,-1665 -100,-1665

## FAB32B-2 [mil]
pads (34):
  round 110 hole 110: 1(38,-984.25) 1(38,984.25)
  oct 48x48 hole 32: A1(-50,750) A2(-50,650) A3(-50,550) A4(-50,450) A5(-50,350) A6(-50,250) A7(-50,150) A8(-50,50) A9(-50,-50) A10(-50,-150) A11(-50,-250) A12(-50,-350) A13(-50,-450) A14(-50,-550) A15(-50,-650) A16(-50,-750) B1(50,750) B2(50,650) B3(50,550) B4(50,450) B5(50,350) B6(50,250) B7(50,150) B8(50,50) B9(50,-50) B10(50,-150) B11(50,-250) B12(50,-350) B13(50,-450) B14(50,-550) B15(50,-650) B16(50,-750)
Bottom Layer keep-out:
  circle w70: c38,-984.25 r90
  circle w70: c38,984.25 r90
Top Overlay:
  circle w10: c38,-984.25 r50
  circle w10: c38,984.25 r50
  lines w10: 160,1040 160,950 ; 160.87,1040.12 ccw(c137.99,1036.99) 140,1060 -75,1060 ; -75,-1060 -75,-950 -15,-875 ; -75,-1060 140,-1060 ccw(c140,-1040) 160,-1040 160,-950 ; -75,-1060 -140,-1060 cw(c-140,-1040) -160,-1040 -160,1040 cw(c-140,1040) -140,1060 -75,1060 ; -75,1060 -75,950 -15,875 ; -15,-875 35,-875 ; -15,-875 -110,-875 -110,875 -15,875 ; -15,875 35,875 ; 35,-875 35,-835 110,-835 110,835 35,835 35,875 ; 35,-875 105,-875 160,-950 ; 35,875 105,875 160,950 ; 160,-950 160,950
  text "1" at 150,740 h49.6
  text "16" at 150,-775 h49.6
  text "DIN41612-B/2" at -175,0 h77.5
  text "a" at -80,790 h77.5
  text "a" at -120.12,-840 h77.5
Mechanical 16:
  rectangle: 35,-775 65,-725
  rectangle: 35,-675 65,-625
  rectangle: 35,-575 65,-525
  rectangle: 35,-475 65,-425
  rectangle: 35,-375 65,-325
  rectangle: 35,-275 65,-225
  rectangle: 35,-175 65,-125
  rectangle: 35,-75 65,-25
  rectangle: 35,25 65,75
  rectangle: 35,125 65,175
  rectangle: -65,-775 -35,-725
  rectangle: -65,-675 -35,-625
  rectangle: -65,-575 -35,-525
  rectangle: -65,-475 -35,-425
  rectangle: -65,-375 -35,-325
  rectangle: -65,-275 -35,-225
  rectangle: -65,-175 -35,-125
  rectangle: -65,-75 -35,-25
  rectangle: -65,25 -35,75
  rectangle: -65,125 -35,175
  rectangle: -65,225 -35,275
  rectangle: -65,325 -35,375
  rectangle: -65,425 -35,475
  rectangle: -65,525 -35,575
  rectangle: -65,625 -35,675
  rectangle: -65,725 -35,775
  rectangle: 35,225 65,275
  rectangle: 35,325 65,375
  rectangle: 35,425 65,475
  rectangle: 35,525 65,575
  rectangle: 35,625 65,675
  rectangle: 35,725 65,775
  lines w2: -100,-865 -100,865 25,865 25,825 100,825 100,-825 25,-825 25,-865 -100,-865
Via Holes:
  circle w70: c38,-984.25 r90
  circle w70: c38,984.25 r90

## FAB32Q2 [mil]
pads (34):
  round 110 hole 110: 1(0,-950.25) 1(0,950.25)
  oct 60x60 hole 40: A1(-100,750) A2(-100,650) A3(-100,550) A4(-100,450) A5(-100,350) A6(-100,250) A7(-100,150) A8(-100,50) A9(-100,-50) A10(-100,-150) A11(-100,-250) A12(-100,-350) A13(-100,-450) A14(-100,-550) A15(-100,-650) A16(-100,-750) B1(-200,750) B2(-200,650) B3(-200,550) B4(-200,450) B5(-200,350) B6(-200,250) B7(-200,150) B8(-200,50) B9(-200,-50) B10(-200,-150) B11(-200,-250) B12(-200,-350) B13(-200,-450) B14(-200,-550) B15(-200,-650) B16(-200,-750)
Bottom Layer keep-out:
  circle w70: c0,-950.25 r90
  circle w70: c0,950.25 r90
Top Overlay:
  circle w6: c0,-950.25 r50
  circle w6: c0,950.25 r50
  lines w6: 150,-875 365,-875 ; 150,875 365,875 ; 155,-835 365,-835 ; 155,835 365,835 ; 365,-875 400,-835 400,-795 ; 365,-875 365,-835 ; 365,-835 365,835 ; 365,-835 400,-795 ; 365,835 400,795 ; 365,835 365,875 ; 365,875 400,835 400,795 ; 400,-795 400,795
  lines w8: -100,1050 -100,1048.43 ; 105,1045 105,900 50,850 -50,850 ; 108.66,-1049.88 108.66,1044.88 ; 149.61,-1049.88 149.61,1044.88 ; 150,-1050 105,-1050 ; 150,1048.43 -100,1048.43 ; -100,1048.43 -100,850 -50,850 ; -50,-850 -100,-850 -100,-1050 105,-1050 ; -50,-850 50,-850 105,-900 105,-1050 ; -50,-850 -50,850
  text "1" at 0,740 h49.6
  text "16" at 0,-775 h49.6
  text "a" at -120,800 h77.5
  text "b" at -220,800 h77.5
  text "DIN41612-Q/2" at 325,100 h77.5
Mechanical 1:
  lines w0: 110,-1169 110,1169
Mechanical 16:
  rectangle: -210,735 -50,765
  rectangle: -210,635 -50,665
  rectangle: -210,535 -50,565
  rectangle: -210,435 -50,465
  rectangle: -210,335 -50,365
  rectangle: -210,235 -50,265
  rectangle: -210,135 -50,165
  rectangle: -210,35 -50,65
  rectangle: -210,-65 -50,-35
  rectangle: -210,-165 -50,-135
  rectangle: -210,-265 -50,-235
  rectangle: -210,-365 -50,-335
  rectangle: -210,-465 -50,-435
  rectangle: -210,-565 -50,-535
  rectangle: -210,-665 -50,-635
  rectangle: -210,-765 -50,-735
Via Holes:
  circle w70: c0,-950.25 r90
  circle w70: c0,950.25 r90

## FAB64S [mil]
pads (66):
  round 110 hole 110: 1(38,-1772) 1(38,1772)
  oct 54x54 hole 36: A1(-50,1550) A2(-50,1450) A3(-50,1350) A4(-50,1250) A5(-50,1150) A6(-50,1050) A7(-50,950) A8(-50,850) A9(-50,750) A10(-50,650) A11(-50,550) A12(-50,450) A13(-50,350) A14(-50,250) A15(-50,150) A16(-50,50) A17(-50,-50) A18(-50,-150) A19(-50,-250) A20(-50,-350) A21(-50,-450) A22(-50,-550) A23(-50,-650) A24(-50,-750) A25(-50,-850) A26(-50,-950) A27(-50,-1050) A28(-50,-1150) A29(-50,-1250) A30(-50,-1350) A31(-50,-1450) A32(-50,-1550) B1(50,1550) B2(50,1450) B3(50,1350) B4(50,1250) B5(50,1150) B6(50,1050) B7(50,950) B8(50,850) B9(50,750) B10(50,650) B11(50,550) B12(50,450) B13(50,350) B14(50,250) B15(50,150) B16(50,50) B17(50,-50) B18(50,-150) B19(50,-250) B20(50,-350) B21(50,-450) B22(50,-550) B23(50,-650) B24(50,-750) B25(50,-850) B26(50,-950) B27(50,-1050) B28(50,-1150) B29(50,-1250) B30(50,-1350) B31(50,-1450) B32(50,-1550)
Bottom Layer keep-out:
  circle w70: c38,-1772 r90
  circle w70: c38,1772 r90
Top Overlay:
  circle w10: c38,-1772 r50
  circle w10: c38,1772 r50
  lines w10: 160,1840 160,1750 ; 160.87,1840.12 ccw(c137.99,1836.99) 140,1860 -75,1860 ; -75,-1860 -75,-1750 -15,-1675 ; -75,-1860 140,-1860 ccw(c140,-1840) 160,-1840 160,-1750 ; -75,-1860 -140,-1860 cw(c-140,-1840) -160,-1840 -160,1840 cw(c-140,1840) -140,1860 -75,1860 ; -75,1860 -75,1750 -15,1675 ; -15,-1675 35,-1675 ; -15,-1675 -110,-1675 -110,1675 -15,1675 ; -15,1675 35,1675 ; 35,-1675 35,-1635 110,-1635 110,1635 35,1635 35,1675 ; 35,-1675 105,-1675 160,-1750 ; 35,1675 105,1675 160,1750 ; 160,-1750 160,1750
  text "32" at -85,-1650 h77.5
  text "A" at -90,1600 h77.5
  text "1" at -30,1600 h77.5
  text "DIN41612 -B" at -175,0 h77.5
Mechanical 16:
  rectangle: 35,-1575 65,-1525
  rectangle: -65,-1575 -35,-1525
  rectangle: 35,-1475 65,-1425
  rectangle: -65,-1475 -35,-1425
  rectangle: -65,-1375 -35,-1325
  rectangle: -65,-1275 -35,-1225
  rectangle: 35,-1375 65,-1325
  rectangle: 35,-1275 65,-1225
  rectangle: -65,-1175 -35,-1125
  rectangle: -65,-1075 -35,-1025
  rectangle: 35,-1175 65,-1125
  rectangle: 35,-1075 65,-1025
  rectangle: 35,-975 65,-925
  rectangle: -65,-975 -35,-925
  rectangle: -65,-875 -35,-825
  rectangle: -65,-775 -35,-725
  rectangle: 35,-875 65,-825
  rectangle: 35,-775 65,-725
  rectangle: 35,-675 65,-625
  rectangle: -65,-675 -35,-625
  rectangle: 35,-575 65,-525
  rectangle: 35,-475 65,-425
  rectangle: 35,-375 65,-325
  rectangle: 35,-275 65,-225
  rectangle: 35,-175 65,-125
  rectangle: 35,-75 65,-25
  rectangle: 35,25 65,75
  rectangle: 35,125 65,175
  rectangle: 35,225 65,275
  rectangle: 35,325 65,375
  rectangle: 35,425 65,475
  rectangle: 35,525 65,575
  rectangle: 35,625 65,675
  rectangle: 35,725 65,775
  rectangle: 35,825 65,875
  rectangle: 35,925 65,975
  rectangle: -65,-575 -35,-525
  rectangle: -65,-475 -35,-425
  rectangle: -65,-375 -35,-325
  rectangle: -65,-275 -35,-225
  rectangle: -65,-175 -35,-125
  rectangle: -65,-75 -35,-25
  rectangle: -65,25 -35,75
  rectangle: -65,125 -35,175
  rectangle: -65,225 -35,275
  rectangle: -65,325 -35,375
  rectangle: -65,425 -35,475
  rectangle: -65,525 -35,575
  rectangle: -65,625 -35,675
  rectangle: -65,725 -35,775
  rectangle: -65,825 -35,875
  rectangle: -65,925 -35,975
  rectangle: -65,1025 -35,1075
  rectangle: -65,1125 -35,1175
  rectangle: -65,1225 -35,1275
  rectangle: -65,1325 -35,1375
  rectangle: -65,1425 -35,1475
  rectangle: -65,1525 -35,1575
  rectangle: 35,1025 65,1075
  rectangle: 35,1125 65,1175
  rectangle: 35,1225 65,1275
  rectangle: 35,1325 65,1375
  rectangle: 35,1425 65,1475
  rectangle: 35,1525 65,1575
  lines w10: -100,-1665 -100,1665 25,1665 25,1625 100,1625 100,-1625 25,-1625 25,-1665 -100,-1665
Via Holes:
  circle w70: c38,-1772 r90
  circle w70: c38,1772 r90

## FABC30 [mil]
pads (32):
  round 110 hole 110: 1(-12,-672) 1(-12,672)
  oct 62.99x62.99 hole 43.31: A1(-100,450) A2(-100,350) A3(-100,250) A4(-100,150) A5(-100,50) A6(-100,-50) A7(-100,-150) A8(-100,-250) A9(-100,-350) A10(-100,-450) B1(0,450) B2(0,350) B3(0,250) B4(0,150) B5(0,50) B6(0,-50) B7(0,-150) B8(0,-250) B9(0,-350) B10(0,-450) C1(100,450) C2(100,350) C3(100,250) C4(100,150) C5(100,50) C6(100,-50) C7(100,-150) C8(100,-250) C9(100,-350) C10(100,-450)
Bottom Layer keep-out:
  circle w70: c-12,672 r90
  circle w70: c-12,-672 r90
Top Overlay:
  circle w6: c-12,-672 r50
  circle w6: c-12,672 r50
  lines w2: -135,-560 35,-560 35,-510 135,-510 135,510 35,510 35,560 -135,560
  lines w6: -135,-560 -135,560 ; -125,-760 -125,-650 -65,-575 ; -125,-760 105,-760 ; -125,-760 -190,-760 cw(c-190,-740) -210,-740 -210,740 cw(c-190,740) -190,760 -125,760 ; -125,760 105,760 ; -125,760 -125,650 -65,575 ; -65,-575 -150,-575 -150,575 -65,575 ; -65,-575 45,-575 ; -65,575 45,575 ; 45,-575 50,-575 50,-525 150,-525 150,525 50,525 50,575 45,575 ; 45,-575 105,-650 105,-760 ; 45,575 105,650 105,760 ; 105,-760 190,-760 ccw(c190,-740) 210,-740 210,740 ccw(c190,740) 190,760 105,760
  text "c" at 105,550 h77.5
  text "10" at -70,-545 h77.5
  text "a" at -120,500 h77.5
  text "1b" at -70,500 h77.5
  text "DIN EN 60 603-2" at -225,0 h77.5
  text "a" at -120,-545 h77.5
  text "c" at 88.07,-587.13 h77.5
Mechanical 16:
  rectangle: 85,-375 115,-325
  rectangle: -115,-375 -85,-325
  rectangle: -115,-175 -85,-125
  rectangle: -115,25 -85,75
  rectangle: -115,225 -85,275
  rectangle: -115,425 -85,475
  rectangle: 85,-175 115,-125
  rectangle: 85,25 115,75
  rectangle: 85,225 115,275
  rectangle: 85,425 115,475
  rectangle: 85,-475 115,-425
  rectangle: -115,-475 -85,-425
  rectangle: -115,-275 -85,-225
  rectangle: -115,-75 -85,-25
  rectangle: -115,125 -85,175
  rectangle: -115,325 -85,375
  rectangle: 85,-275 115,-225
  rectangle: 85,-75 115,-25
  rectangle: 85,125 115,175
  rectangle: 85,325 115,375
  rectangle: -15,-375 15,-325
  rectangle: -15,-175 15,-125
  rectangle: -15,25 15,75
  rectangle: -15,225 15,275
  rectangle: -15,425 15,475
  rectangle: -15,-475 15,-425
  rectangle: -15,-275 15,-225
  rectangle: -15,-75 15,-25
  rectangle: -15,125 15,175
  rectangle: -15,325 15,375
Via Holes:
  circle w70: c-12,672 r90
  circle w70: c-12,-672 r90

## FABC48B2 [mil]
pads (50):
  round 110 hole 110: 1(38,-984.25) 1(38,984.25)
  oct 48x48 hole 32: A1(-50,750) A2(-50,650) A3(-50,550) A4(-50,450) A5(-50,350) A6(-50,250) A7(-50,150) A8(-50,50) A9(-50,-50) A10(-50,-150) A11(-50,-250) A12(-50,-350) A13(-50,-450) A14(-50,-550) A15(-50,-650) A16(-50,-750) B1(50,750) B2(50,650) B3(50,550) B4(50,450) B5(50,350) B6(50,250) B7(50,150) B8(50,50) B9(50,-50) B10(50,-150) B11(50,-250) B12(50,-350) B13(50,-450) B14(50,-550) B15(50,-650) B16(50,-750) C1(150,750) C2(150,650) C3(150,550) C4(150,450) C5(150,350) C6(150,250) C7(150,150) C8(150,50) C9(150,-50) C10(150,-150) C11(150,-250) C12(150,-350) C13(150,-450) C14(150,-550) C15(150,-650) C16(150,-750)
Bottom Layer keep-out:
  circle w70: c38,-984.25 r90
  circle w70: c38,984.25 r90
Top Overlay:
  circle w10: c38,-984.25 r50
  circle w10: c38,984.25 r50
  lines w10: 260,1040 260,-1040 cw(c240,-1040) 240,-1060 160,-1060 ; 260.87,1040.12 ccw(c237.99,1036.99) 240,1060 160,1060 ; -75,-1060 -75,-950 -15,-875 ; -75,-1060 160,-1060 ; -75,-1060 -140,-1060 cw(c-140,-1040) -160,-1040 -160,1040 cw(c-140,1040) -140,1060 -75,1060 ; -75,1060 -75,950 -15,875 ; -75,1060 160,1060 ; -15,-875 105,-875 ; -15,-875 -110,-875 -110,875 -15,875 ; -15,875 105,875 ; 105,-875 160,-950 160,-1060 ; 105,-875 135,-875 135,-835 210,-835 210,835 135,835 135,875 105,875 ; 105,875 160,950 160,1060
  text "1" at 250,740 h49.6
  text "16" at 250,-775 h49.6
  text "a" at -80,790 h77.5
  text "a" at -65,-840 h77.5
  text "DIN41612-C/2" at -175,0 h77.5
Mechanical 16:
  rectangle: 35,-775 65,-725
  rectangle: 35,-675 65,-625
  rectangle: 35,-575 65,-525
  rectangle: 35,-475 65,-425
  rectangle: 35,-375 65,-325
  rectangle: 35,-275 65,-225
  rectangle: 35,-175 65,-125
  rectangle: 35,-75 65,-25
  rectangle: 35,25 65,75
  rectangle: 35,125 65,175
  rectangle: -65,-775 -35,-725
  rectangle: -65,-675 -35,-625
  rectangle: -65,-575 -35,-525
  rectangle: -65,-475 -35,-425
  rectangle: -65,-375 -35,-325
  rectangle: -65,-275 -35,-225
  rectangle: -65,-175 -35,-125
  rectangle: -65,-75 -35,-25
  rectangle: -65,25 -35,75
  rectangle: -65,125 -35,175
  rectangle: -65,225 -35,275
  rectangle: -65,325 -35,375
  rectangle: -65,425 -35,475
  rectangle: -65,525 -35,575
  rectangle: -65,625 -35,675
  rectangle: -65,725 -35,775
  rectangle: 35,225 65,275
  rectangle: 35,325 65,375
  rectangle: 35,425 65,475
  rectangle: 35,525 65,575
  rectangle: 35,625 65,675
  rectangle: 35,725 65,775
  rectangle: 135,725 165,775
  rectangle: 135,625 165,675
  rectangle: 135,525 165,575
  rectangle: 135,425 165,475
  rectangle: 135,325 165,375
  rectangle: 135,225 165,275
  rectangle: 135,125 165,175
  rectangle: 135,25 165,75
  rectangle: 135,-75 165,-25
  rectangle: 135,-175 165,-125
  rectangle: 135,-275 165,-225
  rectangle: 135,-375 165,-325
  rectangle: 135,-475 165,-425
  rectangle: 135,-575 165,-525
  rectangle: 135,-675 165,-625
  rectangle: 135,-775 165,-725
  lines w2: -100,-865 -100,865 125,865 125,825 200,825 200,-825 125,-825 125,-865 -100,-865
Via Holes:
  circle w70: c38,-984.25 r90
  circle w70: c38,984.25 r90

## FABC48R2 [mil]
pads (50):
  round 110 hole 110: 1(0,-950.25) 1(0,950.25)
  oct 60x60 hole 40: A1(-100,750) A2(-100,650) A3(-100,550) A4(-100,450) A5(-100,350) A6(-100,250) A7(-100,150) A8(-100,50) A9(-100,-50) A10(-100,-150) A11(-100,-250) A12(-100,-350) A13(-100,-450) A14(-100,-550) A15(-100,-650) A16(-100,-750) B1(-200,750) B2(-200,650) B3(-200,550) B4(-200,450) B5(-200,350) B6(-200,250) B7(-200,150) B8(-200,50) B9(-200,-50) B10(-200,-150) B11(-200,-250) B12(-200,-350) B13(-200,-450) B14(-200,-550) B15(-200,-650) B16(-200,-750) C1(-300,750) C2(-300,650) C3(-300,550) C4(-300,450) C5(-300,350) C6(-300,250) C7(-300,150) C8(-300,50) C9(-300,-50) C10(-300,-150) C11(-300,-250) C12(-300,-350) C13(-300,-450) C14(-300,-550) C15(-300,-650) C16(-300,-750)
Bottom Layer keep-out:
  circle w70: c0,-950.25 r90
  circle w70: c0,950.25 r90
Top Overlay:
  circle w6: c0,-950.25 r50
  circle w6: c0,950.25 r50
  lines w6: 150,-875 365,-875 ; 150,875 365,875 ; 155,-835 365,-835 ; 155,835 365,835 ; 365,-875 400,-835 400,-795 ; 365,-875 365,-835 ; 365,-835 365,835 ; 365,-835 400,-795 ; 365,835 400,795 ; 365,835 365,875 ; 365,875 400,835 400,795 ; 400,-795 400,795
  lines w8: -100,1050 -100,1048.43 ; 105,1045 105,900 50,850 -50,850 ; 108.66,-1049.88 108.66,1044.88 ; 149.61,-1049.88 149.61,1044.88 ; 150,-1050 105,-1050 ; 150,1048.43 -100,1048.43 ; -100,1048.43 -100,850 -50,850 ; -50,-850 -100,-850 -100,-1050 105,-1050 ; -50,-850 50,-850 105,-900 105,-1050 ; -50,-850 -50,850
  text "1" at 0,740 h49.6
  text "16" at 0,-775 h49.6
  text "a" at -120,800 h77.5
  text "b" at -220,800 h77.5
  text "c" at -320,800 h77.5
  text "DIN41612-R/2" at 325,100 h77.5
Mechanical 1:
  lines w0: 110,-1169 110,1169
Mechanical 16:
  rectangle: -310,735 -50,765
  rectangle: -310,635 -50,665
  rectangle: -310,535 -50,565
  rectangle: -310,435 -50,465
  rectangle: -310,335 -50,365
  rectangle: -310,235 -50,265
  rectangle: -310,135 -50,165
  rectangle: -310,35 -50,65
  rectangle: -310,-65 -50,-35
  rectangle: -310,-165 -50,-135
  rectangle: -310,-265 -50,-235
  rectangle: -310,-365 -50,-335
  rectangle: -310,-465 -50,-435
  rectangle: -310,-565 -50,-535
  rectangle: -310,-665 -50,-635
  rectangle: -310,-765 -50,-735
Via Holes:
  circle w70: c0,-950.25 r90
  circle w70: c0,950.25 r90

## FABC96R [mil]
pads (98):
  round 110 hole 110: 1(0,-1750.25) 1(0,1750.25)
  oct 60x60 hole 40: A1(-100,1550) A2(-100,1450) A3(-100,1350) A4(-100,1250) A5(-100,1150) A6(-100,1050) A7(-100,950) A8(-100,850) A9(-100,750) A10(-100,650) A11(-100,550) A12(-100,450) A13(-100,350) A14(-100,250) A15(-100,150) A16(-100,50) A17(-100,-50) A18(-100,-150) A19(-100,-250) A20(-100,-350) A21(-100,-450) A22(-100,-550) A23(-100,-650) A24(-100,-750) A25(-100,-850) A26(-100,-950) A27(-100,-1050) A28(-100,-1150) A29(-100,-1250) A30(-100,-1350) A31(-100,-1450) A32(-100,-1550) B1(-200,1550) B2(-200,1450) B3(-200,1350) B4(-200,1250) B5(-200,1150) B6(-200,1050) B7(-200,950) B8(-200,850) B9(-200,750) B10(-200,650) B11(-200,550) B12(-200,450) B13(-200,350) B14(-200,250) B15(-200,150) B16(-200,50) B17(-200,-50) B18(-200,-150) B19(-200,-250) B20(-200,-350) B21(-200,-450) B22(-200,-550) B23(-200,-650) B24(-200,-750) B25(-200,-850) B26(-200,-950) B27(-200,-1050) B28(-200,-1150) B29(-200,-1250) B30(-200,-1350) B31(-200,-1450) B32(-200,-1550) C1(-300,1550) C2(-300,1450) C3(-300,1350) C4(-300,1250) C5(-300,1150) C6(-300,1050) C7(-300,950) C8(-300,850) C9(-300,750) C10(-300,650) C11(-300,550) C12(-300,450) C13(-300,350) C14(-300,250) C15(-300,150) C16(-300,50) C17(-300,-50) C18(-300,-150) C19(-300,-250) C20(-300,-350) C21(-300,-450) C22(-300,-550) C23(-300,-650) C24(-300,-750) C25(-300,-850) C26(-300,-950) C27(-300,-1050) C28(-300,-1150) C29(-300,-1250) C30(-300,-1350) C31(-300,-1450) C32(-300,-1550)
Bottom Layer keep-out:
  circle w70: c0,-1750.25 r90
  circle w70: c0,1750.25 r90
Top Overlay:
  circle w10: c0,-1750.25 r50
  circle w10: c0,1750.25 r50
  lines w2: 108.66,-1849.88 108.66,1844.88
  lines w10: -100,1850 -100,1848.43 ; 105,1845 105,1700 50,1650 -50,1650 ; 149.61,-1849.88 149.61,1844.88 ; 150,-1850 105,-1850 ; 150,-1675 365,-1675 ; 150,1675 365,1675 ; 150,1848.43 -100,1848.43 ; 155,-1635 365,-1635 ; 155,1635 365,1635 ; -100,1848.43 -100,1650 -50,1650 ; -50,-1650 -100,-1650 -100,-1850 105,-1850 ; -50,-1650 50,-1650 105,-1700 105,-1850 ; -50,-1650 -50,1650 ; 365,-1675 400,-1635 400,-1595 ; 365,-1675 365,-1635 ; 365,-1635 365,1635 ; 365,-1635 400,-1595 ; 365,1635 400,1595 ; 365,1635 365,1675 ; 365,1675 400,1635 400,1595 ; 400,-1595 400,1595
  text "1" at 0,1540 h49.6
  text "a" at -120,1600 h77.5
  text "b" at -220,1600 h77.5
  text "c" at -320,1600 h77.5
  text "32" at 0,-1575 h49.6
  text "DIN41612-R" at 325,900 h77.5
Mechanical 1:
  lines w0: 110,-1969 110,1969
Mechanical 16:
  rectangle: -310,1535 -50,1565
  rectangle: -310,1435 -50,1465
  rectangle: -310,1335 -50,1365
  rectangle: -310,1235 -50,1265
  rectangle: -310,1135 -50,1165
  rectangle: -310,1035 -50,1065
  rectangle: -310,935 -50,965
  rectangle: -310,835 -50,865
  rectangle: -310,735 -50,765
  rectangle: -310,635 -50,665
  rectangle: -310,535 -50,565
  rectangle: -310,435 -50,465
  rectangle: -310,335 -50,365
  rectangle: -310,235 -50,265
  rectangle: -310,135 -50,165
  rectangle: -310,35 -50,65
  rectangle: -310,-65 -50,-35
  rectangle: -310,-165 -50,-135
  rectangle: -310,-265 -50,-235
  rectangle: -310,-365 -50,-335
  rectangle: -310,-465 -50,-435
  rectangle: -310,-565 -50,-535
  rectangle: -310,-665 -50,-635
  rectangle: -310,-765 -50,-735
  rectangle: -310,-865 -50,-835
  rectangle: -310,-965 -50,-935
  rectangle: -310,-1065 -50,-1035
  rectangle: -310,-1165 -50,-1135
  rectangle: -310,-1265 -50,-1235
  rectangle: -310,-1365 -50,-1335
  rectangle: -310,-1465 -50,-1435
  rectangle: -310,-1565 -50,-1535
Via Holes:
  circle w70: c0,-1750.25 r90
  circle w70: c0,1750.25 r90